# Altium integrated library INDUCTOR-5.0mmX4.5mm.IntLib: 115 symbols (part 2 of 2)
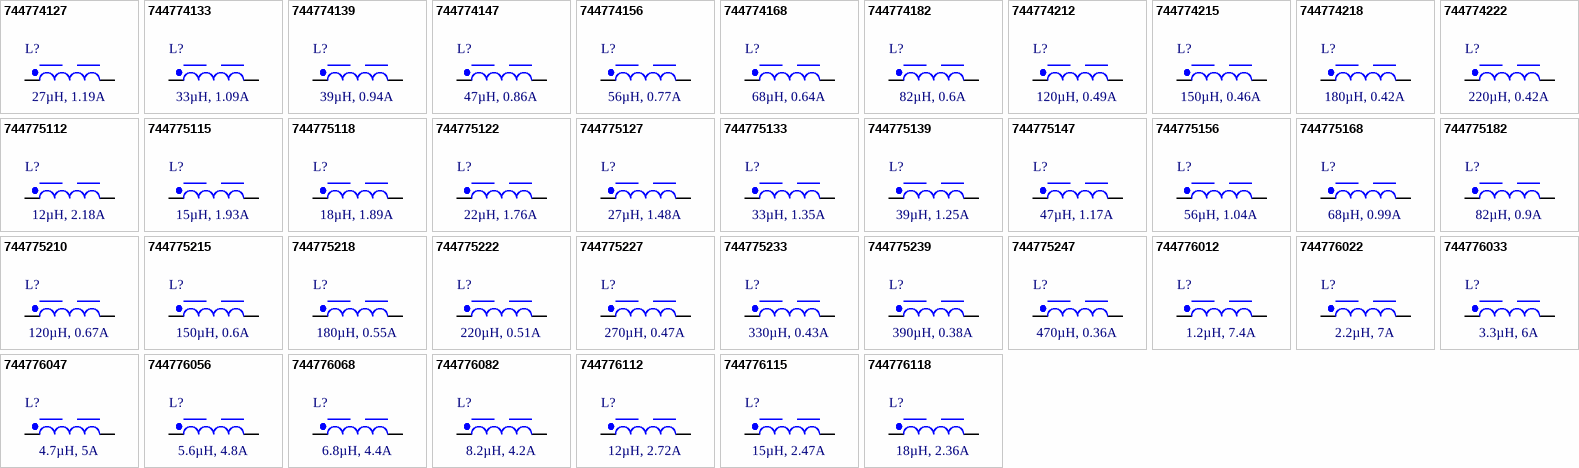
[diagram p3: symbols 744774127 to 744776118]

## 744775147
designator L?, comment 47µH, 1.17A
WE-PD2 SMT Power Inductor, size 7850, 47µH, 1.17A, 0.134Ω; Manufacturer Part Number: 744775147; Manufacturer: Wurth Elektronik; Case/Size Code: 7850; Saturation Current @ 10%: 1.24A; Self Resonant Frequency: 12MHz; Category: Power Inductors; Match Code: WE-PD2; ComponentLink1Description: Website Link; ComponentLink1URL: https://www.we-online.com/redexpert/article/744775147?ad; ComponentLink2Description: Datasheet Link; ComponentLink2URL: https://www.we-online.com/redexpert/spec/744775147?ad; Mount: Surface Mount; Min Operating Temperature: -40°C; Max Operating Temperature: 125°C; Packaging: Tape and Reel; Length: 7.8mm; Width: 7mm; Height: 4.95mm; DC Resistance Max: 0.134Ω; Inductance: 47µH; Rated Current: 1.17A
footprint WE-PD2_7850
simulation model 7850_744775147_47u
pins: 1, 2

## 744775156
designator L?, comment 56µH, 1.04A
WE-PD2 SMT Power Inductor, size 7850, 56µH, 1.04A, 0.189Ω; Manufacturer Part Number: 744775156; Manufacturer: Wurth Elektronik; Case/Size Code: 7850; Saturation Current @ 10%: 1.14A; Self Resonant Frequency: 10.5MHz; Category: Power Inductors; Match Code: WE-PD2; ComponentLink1Description: Website Link; ComponentLink1URL: https://www.we-online.com/redexpert/article/744775156?ad; ComponentLink2Description: Datasheet Link; ComponentLink2URL: https://www.we-online.com/redexpert/spec/744775156?ad; Mount: Surface Mount; Min Operating Temperature: -40°C; Max Operating Temperature: 125°C; Packaging: Tape and Reel; Length: 7.8mm; Width: 7mm; Height: 4.95mm; DC Resistance Max: 0.189Ω; Inductance: 56µH; Rated Current: 1.04A
footprint WE-PD2_7850
simulation model 7850_744775156_56u
pins: 1, 2

## 744775168
designator L?, comment 68µH, 0.99A
WE-PD2 SMT Power Inductor, size 7850, 68µH, 0.99A, 0.218Ω; Manufacturer Part Number: 744775168; Manufacturer: Wurth Elektronik; Case/Size Code: 7850; Saturation Current @ 10%: 1.05A; Self Resonant Frequency: 9.7MHz; Category: Power Inductors; Match Code: WE-PD2; ComponentLink1Description: Website Link; ComponentLink1URL: https://www.we-online.com/redexpert/article/744775168?ad; ComponentLink2Description: Datasheet Link; ComponentLink2URL: https://www.we-online.com/redexpert/spec/744775168?ad; Mount: Surface Mount; Min Operating Temperature: -40°C; Max Operating Temperature: 125°C; Packaging: Tape and Reel; Length: 7.8mm; Width: 7mm; Height: 4.95mm; DC Resistance Max: 0.218Ω; Inductance: 68µH; Rated Current: 0.99A
footprint WE-PD2_7850
simulation model 7850_744775168_68u
pins: 1, 2

## 744775182
designator L?, comment 82µH, 0.9A
WE-PD2 SMT Power Inductor, size 7850, 82µH, 0.9A, 0.248Ω; Manufacturer Part Number: 744775182; Manufacturer: Wurth Elektronik; Case/Size Code: 7850; Saturation Current @ 10%: 0.95A; Self Resonant Frequency: 8.6MHz; Category: Power Inductors; Match Code: WE-PD2; ComponentLink1Description: Website Link; ComponentLink1URL: https://www.we-online.com/redexpert/article/744775182?ad; ComponentLink2Description: Datasheet Link; ComponentLink2URL: https://www.we-online.com/redexpert/spec/744775182?ad; Mount: Surface Mount; Min Operating Temperature: -40°C; Max Operating Temperature: 125°C; Packaging: Tape and Reel; Length: 7.8mm; Width: 7mm; Height: 4.95mm; DC Resistance Max: 0.248Ω; Inductance: 82µH; Rated Current: 0.9A
footprint WE-PD2_7850
simulation model 7850_744775182_82u
pins: 1, 2

## 744775210
designator L?, comment 120µH, 0.67A
WE-PD2 SMT Power Inductor, size 7850, 120µH, 0.67A, 0.308Ω; Manufacturer Part Number: 744775210; Manufacturer: Wurth Elektronik; Case/Size Code: 7850; Saturation Current @ 10%: 0.81A; Self Resonant Frequency: 7MHz; Category: Power Inductors; Match Code: WE-PD2; ComponentLink1Description: Website Link; ComponentLink1URL: https://www.we-online.com/redexpert/article/744775210?ad; ComponentLink2Description: Datasheet Link; ComponentLink2URL: https://www.we-online.com/redexpert/spec/744775210?ad; Mount: Surface Mount; Min Operating Temperature: -40°C; Max Operating Temperature: 125°C; Packaging: Tape and Reel; Length: 7.8mm; Width: 7mm; Height: 4.95mm; DC Resistance Max: 0.308Ω; Inductance: 120µH; Rated Current: 0.67A
footprint WE-PD2_7850
simulation model 7850_744775210_120u
pins: 1, 2

## 744775215
designator L?, comment 150µH, 0.6A
WE-PD2 SMT Power Inductor, size 7850, 150µH, 0.6A, 0.467Ω; Manufacturer Part Number: 744775215; Manufacturer: Wurth Elektronik; Case/Size Code: 7850; Saturation Current @ 10%: 0.71A; Self Resonant Frequency: 6.2MHz; Category: Power Inductors; Match Code: WE-PD2; ComponentLink1Description: Website Link; ComponentLink1URL: https://www.we-online.com/redexpert/article/744775215?ad; ComponentLink2Description: Datasheet Link; ComponentLink2URL: https://www.we-online.com/redexpert/spec/744775215?ad; Mount: Surface Mount; Min Operating Temperature: -40°C; Max Operating Temperature: 125°C; Packaging: Tape and Reel; Length: 7.8mm; Width: 7mm; Height: 4.95mm; DC Resistance Max: 0.467Ω; Inductance: 150µH; Rated Current: 0.6A
footprint WE-PD2_7850
simulation model 7850_744775215_150u
pins: 1, 2

## 744775218
designator L?, comment 180µH, 0.55A
WE-PD2 SMT Power Inductor, size 7850, 180µH, 0.55A, 0.574Ω; Manufacturer Part Number: 744775218; Manufacturer: Wurth Elektronik; Case/Size Code: 7850; Saturation Current @ 10%: 0.57A; Self Resonant Frequency: 5.8MHz; Category: Power Inductors; Match Code: WE-PD2; ComponentLink1Description: Website Link; ComponentLink1URL: https://www.we-online.com/redexpert/article/744775218?ad; ComponentLink2Description: Datasheet Link; ComponentLink2URL: https://www.we-online.com/redexpert/spec/744775218?ad; Mount: Surface Mount; Min Operating Temperature: -40°C; Max Operating Temperature: 125°C; Packaging: Tape and Reel; Length: 7.8mm; Width: 7mm; Height: 4.95mm; DC Resistance Max: 0.574Ω; Inductance: 180µH; Rated Current: 0.55A
footprint WE-PD2_7850
simulation model 7850_744775218_180u
pins: 1, 2

## 744775222
designator L?, comment 220µH, 0.51A
WE-PD2 SMT Power Inductor, size 7850, 220µH, 0.51A, 0.614Ω; Manufacturer Part Number: 744775222; Manufacturer: Wurth Elektronik; Case/Size Code: 7850; Saturation Current @ 10%: 0.56A; Self Resonant Frequency: 5.4MHz; Category: Power Inductors; Match Code: WE-PD2; ComponentLink1Description: Website Link; ComponentLink1URL: https://www.we-online.com/redexpert/article/744775222?ad; ComponentLink2Description: Datasheet Link; ComponentLink2URL: https://www.we-online.com/redexpert/spec/744775222?ad; Mount: Surface Mount; Min Operating Temperature: -40°C; Max Operating Temperature: 125°C; Packaging: Tape and Reel; Length: 7.8mm; Width: 7mm; Height: 4.95mm; DC Resistance Max: 0.614Ω; Inductance: 220µH; Rated Current: 0.51A
footprint WE-PD2_7850
simulation model 7850_744775222_220u
pins: 1, 2

## 744775227
designator L?, comment 270µH, 0.47A
WE-PD2 SMT Power Inductor, size 7850, 270µH, 0.47A, 0.699Ω; Manufacturer Part Number: 744775227; Manufacturer: Wurth Elektronik; Case/Size Code: 7850; Saturation Current @ 10%: 0.51A; Self Resonant Frequency: 4.7MHz; Category: Power Inductors; Match Code: WE-PD2; ComponentLink1Description: Website Link; ComponentLink1URL: https://www.we-online.com/redexpert/article/744775227?ad; ComponentLink2Description: Datasheet Link; ComponentLink2URL: https://www.we-online.com/redexpert/spec/744775227?ad; Mount: Surface Mount; Min Operating Temperature: -40°C; Max Operating Temperature: 125°C; Packaging: Tape and Reel; Length: 7.8mm; Width: 7mm; Height: 4.95mm; DC Resistance Max: 0.699Ω; Inductance: 270µH; Rated Current: 0.47A
footprint WE-PD2_7850
simulation model 7850_744775227_270u
pins: 1, 2

## 744775233
designator L?, comment 330µH, 0.43A
WE-PD2 SMT Power Inductor, size 7850, 330µH, 0.43A, 0.81Ω; Manufacturer Part Number: 744775233; Manufacturer: Wurth Elektronik; Case/Size Code: 7850; Saturation Current @ 10%: 0.48A; Self Resonant Frequency: 4.2MHz; Category: Power Inductors; Match Code: WE-PD2; ComponentLink1Description: Website Link; ComponentLink1URL: https://www.we-online.com/redexpert/article/744775233?ad; ComponentLink2Description: Datasheet Link; ComponentLink2URL: https://www.we-online.com/redexpert/spec/744775233?ad; Mount: Surface Mount; Min Operating Temperature: -40°C; Max Operating Temperature: 125°C; Packaging: Tape and Reel; Length: 7.8mm; Width: 7mm; Height: 4.95mm; DC Resistance Max: 0.81Ω; Inductance: 330µH; Rated Current: 0.43A
footprint WE-PD2_7850
simulation model 7850_744775233_330u
pins: 1, 2

## 744775239
designator L?, comment 390µH, 0.38A
WE-PD2 SMT Power Inductor, size 7850, 390µH, 0.38A, 1.151Ω; Manufacturer Part Number: 744775239; Manufacturer: Wurth Elektronik; Case/Size Code: 7850; Saturation Current @ 10%: 0.43A; Self Resonant Frequency: 3.9MHz; Category: Power Inductors; Match Code: WE-PD2; ComponentLink1Description: Website Link; ComponentLink1URL: https://www.we-online.com/redexpert/article/744775239?ad; ComponentLink2Description: Datasheet Link; ComponentLink2URL: https://www.we-online.com/redexpert/spec/744775239?ad; Mount: Surface Mount; Min Operating Temperature: -40°C; Max Operating Temperature: 125°C; Packaging: Tape and Reel; Length: 7.8mm; Width: 7mm; Height: 4.95mm; DC Resistance Max: 1.151Ω; Inductance: 390µH; Rated Current: 0.38A
footprint WE-PD2_7850
simulation model 7850_744775239_390u
pins: 1, 2

## 744775247
designator L?, comment 470µH, 0.36A
WE-PD2 SMT Power Inductor, size 7850, 470µH, 0.36A, 1.37Ω; Manufacturer Part Number: 744775247; Manufacturer: Wurth Elektronik; Case/Size Code: 7850; Saturation Current @ 10%: 0.38A; Self Resonant Frequency: 3.4MHz; Category: Power Inductors; Match Code: WE-PD2; ComponentLink1Description: Website Link; ComponentLink1URL: https://www.we-online.com/redexpert/article/744775247?ad; ComponentLink2Description: Datasheet Link; ComponentLink2URL: https://www.we-online.com/redexpert/spec/744775247?ad; Mount: Surface Mount; Min Operating Temperature: -40°C; Max Operating Temperature: 125°C; Packaging: Tape and Reel; Length: 7.8mm; Width: 7mm; Height: 4.95mm; DC Resistance Max: 1.37Ω; Inductance: 470µH; Rated Current: 0.36A
footprint WE-PD2_7850
simulation model 7850_744775247_470u
pins: 1, 2

## 744776012
designator L?, comment 1.2µH, 7.4A
WE-PD2 SMT Power Inductor, size 1054, 1.2µH, 7.4A, 0.004Ω; Manufacturer Part Number: 744776012; Manufacturer: Wurth Elektronik; Case/Size Code: 1054; Saturation Current @ 10%: 11A; Self Resonant Frequency: 110MHz; Category: Power Inductors; Match Code: WE-PD2; ComponentLink1Description: Website Link; ComponentLink1URL: https://www.we-online.com/redexpert/article/744776012?ad; ComponentLink2Description: Datasheet Link; ComponentLink2URL: https://www.we-online.com/redexpert/spec/744776012?ad; Mount: Surface Mount; Min Operating Temperature: -40°C; Max Operating Temperature: 125°C; Packaging: Tape and Reel; Length: 10mm; Width: 9mm; Height: 5.4mm; DC Resistance Max: 0.004Ω; Inductance: 1.2µH; Rated Current: 7.4A
footprint WE-PD2_1054
simulation model 1054_744776012_1.2u
pins: 1, 2

## 744776022
designator L?, comment 2.2µH, 7A
WE-PD2 SMT Power Inductor, size 1054, 2.2µH, 7A, 0.007Ω; Manufacturer Part Number: 744776022; Manufacturer: Wurth Elektronik; Case/Size Code: 1054; Saturation Current @ 10%: 8A; Self Resonant Frequency: 75MHz; Category: Power Inductors; Match Code: WE-PD2; ComponentLink1Description: Website Link; ComponentLink1URL: https://www.we-online.com/redexpert/article/744776022?ad; ComponentLink2Description: Datasheet Link; ComponentLink2URL: https://www.we-online.com/redexpert/spec/744776022?ad; Mount: Surface Mount; Min Operating Temperature: -40°C; Max Operating Temperature: 125°C; Packaging: Tape and Reel; Length: 10mm; Width: 9mm; Height: 5.4mm; DC Resistance Max: 0.007Ω; Inductance: 2.2µH; Rated Current: 7A
footprint WE-PD2_1054
simulation model 1054_744776022_2.2u
pins: 1, 2

## 744776033
designator L?, comment 3.3µH, 6A
WE-PD2 SMT Power Inductor, size 1054, 3.3µH, 6A, 0.009Ω; Manufacturer Part Number: 744776033; Manufacturer: Wurth Elektronik; Case/Size Code: 1054; Saturation Current @ 10%: 7A; Self Resonant Frequency: 45MHz; Category: Power Inductors; Match Code: WE-PD2; ComponentLink1Description: Website Link; ComponentLink1URL: https://www.we-online.com/redexpert/article/744776033?ad; ComponentLink2Description: Datasheet Link; ComponentLink2URL: https://www.we-online.com/redexpert/spec/744776033?ad; Mount: Surface Mount; Min Operating Temperature: -40°C; Max Operating Temperature: 125°C; Packaging: Tape and Reel; Length: 10mm; Width: 9mm; Height: 5.4mm; DC Resistance Max: 0.009Ω; Inductance: 3.3µH; Rated Current: 6A
footprint WE-PD2_1054
simulation model 1054_744776033_3.3u
pins: 1, 2

## 744776047
designator L?, comment 4.7µH, 5A
WE-PD2 SMT Power Inductor, size 1054, 4.7µH, 5A, 0.012Ω; Manufacturer Part Number: 744776047; Manufacturer: Wurth Elektronik; Case/Size Code: 1054; Saturation Current @ 10%: 6A; Self Resonant Frequency: 41MHz; Category: Power Inductors; Match Code: WE-PD2; ComponentLink1Description: Website Link; ComponentLink1URL: https://www.we-online.com/redexpert/article/744776047?ad; ComponentLink2Description: Datasheet Link; ComponentLink2URL: https://www.we-online.com/redexpert/spec/744776047?ad; Mount: Surface Mount; Min Operating Temperature: -40°C; Max Operating Temperature: 125°C; Packaging: Tape and Reel; Length: 10mm; Width: 9mm; Height: 5.4mm; DC Resistance Max: 0.012Ω; Inductance: 4.7µH; Rated Current: 5A
footprint WE-PD2_1054
simulation model 1054_744776047_4.7u
pins: 1, 2

## 744776056
designator L?, comment 5.6µH, 4.8A
WE-PD2 SMT Power Inductor, size 1054, 5.6µH, 4.8A, 0.015Ω; Manufacturer Part Number: 744776056; Manufacturer: Wurth Elektronik; Case/Size Code: 1054; Saturation Current @ 10%: 5.5A; Self Resonant Frequency: 38MHz; Category: Power Inductors; Match Code: WE-PD2; ComponentLink1Description: Website Link; ComponentLink1URL: https://www.we-online.com/redexpert/article/744776056?ad; ComponentLink2Description: Datasheet Link; ComponentLink2URL: https://www.we-online.com/redexpert/spec/744776056?ad; Mount: Surface Mount; Min Operating Temperature: -40°C; Max Operating Temperature: 125°C; Packaging: Tape and Reel; Length: 10mm; Width: 9mm; Height: 5.4mm; DC Resistance Max: 0.015Ω; Inductance: 5.6µH; Rated Current: 4.8A
footprint WE-PD2_1054
simulation model 1054_744776056_5.6u
pins: 1, 2

## 744776068
designator L?, comment 6.8µH, 4.4A
WE-PD2 SMT Power Inductor, size 1054, 6.8µH, 4.4A, 0.016Ω; Manufacturer Part Number: 744776068; Manufacturer: Wurth Elektronik; Case/Size Code: 1054; Saturation Current @ 10%: 5A; Self Resonant Frequency: 34MHz; Category: Power Inductors; Match Code: WE-PD2; ComponentLink1Description: Website Link; ComponentLink1URL: https://www.we-online.com/redexpert/article/744776068?ad; ComponentLink2Description: Datasheet Link; ComponentLink2URL: https://www.we-online.com/redexpert/spec/744776068?ad; Mount: Surface Mount; Min Operating Temperature: -40°C; Max Operating Temperature: 125°C; Packaging: Tape and Reel; Length: 10mm; Width: 9mm; Height: 5.4mm; DC Resistance Max: 0.016Ω; Inductance: 6.8µH; Rated Current: 4.4A
footprint WE-PD2_1054
simulation model 1054_744776068_6.8u
pins: 1, 2

## 744776082
designator L?, comment 8.2µH, 4.2A
WE-PD2 SMT Power Inductor, size 1054, 8.2µH, 4.2A, 0.02Ω; Manufacturer Part Number: 744776082; Manufacturer: Wurth Elektronik; Case/Size Code: 1054; Saturation Current @ 10%: 4.25A; Self Resonant Frequency: 25MHz; Category: Power Inductors; Match Code: WE-PD2; ComponentLink1Description: Website Link; ComponentLink1URL: https://www.we-online.com/redexpert/article/744776082?ad; ComponentLink2Description: Datasheet Link; ComponentLink2URL: https://www.we-online.com/redexpert/spec/744776082?ad; Mount: Surface Mount; Min Operating Temperature: -40°C; Max Operating Temperature: 125°C; Packaging: Tape and Reel; Length: 10mm; Width: 9mm; Height: 5.4mm; DC Resistance Max: 0.02Ω; Inductance: 8.2µH; Rated Current: 4.2A
footprint WE-PD2_1054
simulation model 1054_744776082_8.2u
pins: 1, 2

## 744776112
designator L?, comment 12µH, 2.72A
WE-PD2 SMT Power Inductor, size 1054, 12µH, 2.72A, 0.033Ω; Manufacturer Part Number: 744776112; Manufacturer: Wurth Elektronik; Case/Size Code: 1054; Saturation Current @ 10%: 3.15A; Self Resonant Frequency: 23MHz; Category: Power Inductors; Match Code: WE-PD2; ComponentLink1Description: Website Link; ComponentLink1URL: https://www.we-online.com/redexpert/article/744776112?ad; ComponentLink2Description: Datasheet Link; ComponentLink2URL: https://www.we-online.com/redexpert/spec/744776112?ad; Mount: Surface Mount; Min Operating Temperature: -40°C; Max Operating Temperature: 125°C; Packaging: Tape and Reel; Length: 10mm; Width: 9mm; Height: 5.4mm; DC Resistance Max: 0.033Ω; Inductance: 12µH; Rated Current: 2.72A
footprint WE-PD2_1054
simulation model 1054_744776112_12u
pins: 1, 2

## 744776115
designator L?, comment 15µH, 2.47A
WE-PD2 SMT Power Inductor, size 1054, 15µH, 2.47A, 0.034Ω; Manufacturer Part Number: 744776115; Manufacturer: Wurth Elektronik; Case/Size Code: 1054; Saturation Current @ 10%: 2.88A; Self Resonant Frequency: 20MHz; Category: Power Inductors; Match Code: WE-PD2; ComponentLink1Description: Website Link; ComponentLink1URL: https://www.we-online.com/redexpert/article/744776115?ad; ComponentLink2Description: Datasheet Link; ComponentLink2URL: https://www.we-online.com/redexpert/spec/744776115?ad; Mount: Surface Mount; Min Operating Temperature: -40°C; Max Operating Temperature: 125°C; Packaging: Tape and Reel; Length: 10mm; Width: 9mm; Height: 5.4mm; DC Resistance Max: 0.034Ω; Inductance: 15µH; Rated Current: 2.47A
footprint WE-PD2_1054
simulation model 1054_744776115_15u
pins: 1, 2

## 744776118
designator L?, comment 18µH, 2.36A
WE-PD2 SMT Power Inductor, size 1054, 18µH, 2.36A, 0.043Ω; Manufacturer Part Number: 744776118; Manufacturer: Wurth Elektronik; Case/Size Code: 1054; Saturation Current @ 10%: 2.43A; Self Resonant Frequency: 19MHz; Category: Power Inductors; Match Code: WE-PD2; ComponentLink1Description: Website Link; ComponentLink1URL: https://www.we-online.com/redexpert/article/744776118?ad; ComponentLink2Description: Datasheet Link; ComponentLink2URL: https://www.we-online.com/redexpert/spec/744776118?ad; Mount: Surface Mount; Min Operating Temperature: -40°C; Max Operating Temperature: 125°C; Packaging: Tape and Reel; Length: 10mm; Width: 9mm; Height: 5.4mm; DC Resistance Max: 0.043Ω; Inductance: 18µH; Rated Current: 2.36A
footprint WE-PD2_1054
simulation model 1054_744776118_18u
pins: 1, 2

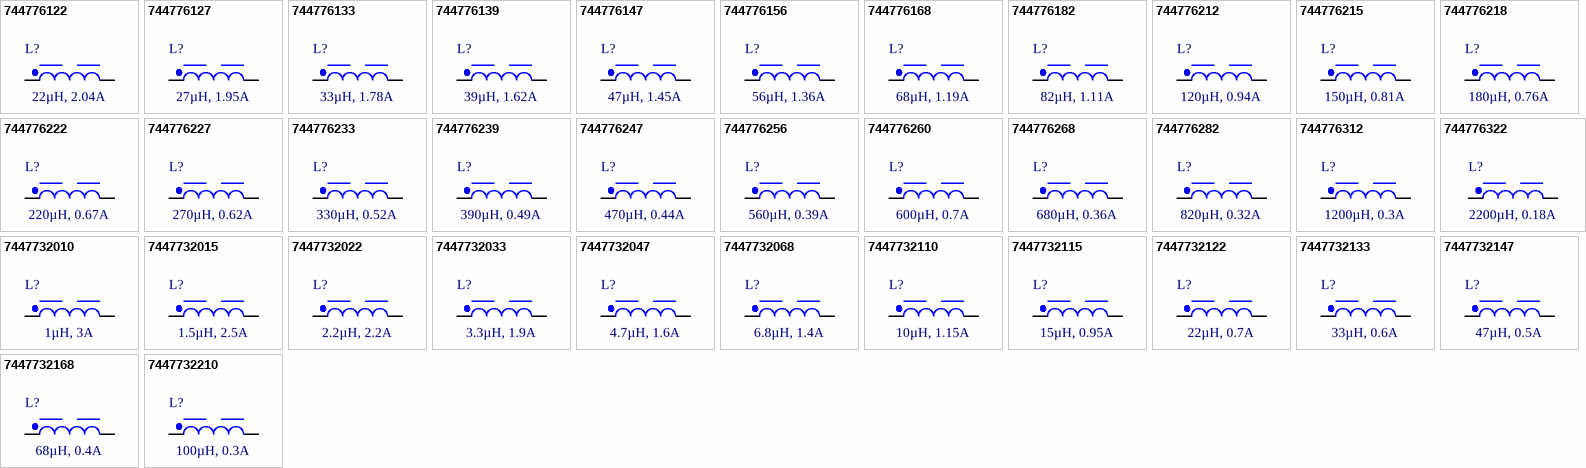
[diagram p2: symbols 744776122 to 7447732210]

## 744776122
designator L?, comment 22µH, 2.04A
WE-PD2 SMT Power Inductor, size 1054, 22µH, 2.04A, 0.051Ω; Manufacturer Part Number: 744776122; Manufacturer: Wurth Elektronik; Case/Size Code: 1054; Saturation Current @ 10%: 2.07A; Self Resonant Frequency: 16MHz; Category: Power Inductors; Match Code: WE-PD2; ComponentLink1Description: Website Link; ComponentLink1URL: https://www.we-online.com/redexpert/article/744776122?ad; ComponentLink2Description: Datasheet Link; ComponentLink2URL: https://www.we-online.com/redexpert/spec/744776122?ad; Mount: Surface Mount; Min Operating Temperature: -40°C; Max Operating Temperature: 125°C; Packaging: Tape and Reel; Length: 10mm; Width: 9mm; Height: 5.4mm; DC Resistance Max: 0.051Ω; Inductance: 22µH; Rated Current: 2.04A
footprint WE-PD2_1054
simulation model 1054_744776122_22u
pins: 1, 2

## 744776127
designator L?, comment 27µH, 1.95A
WE-PD2 SMT Power Inductor, size 1054, 27µH, 1.95A, 0.063Ω; Manufacturer Part Number: 744776127; Manufacturer: Wurth Elektronik; Case/Size Code: 1054; Saturation Current @ 10%: 1.98A; Self Resonant Frequency: 15MHz; Category: Power Inductors; Match Code: WE-PD2; ComponentLink1Description: Website Link; ComponentLink1URL: https://www.we-online.com/redexpert/article/744776127?ad; ComponentLink2Description: Datasheet Link; ComponentLink2URL: https://www.we-online.com/redexpert/spec/744776127?ad; Mount: Surface Mount; Min Operating Temperature: -40°C; Max Operating Temperature: 125°C; Packaging: Tape and Reel; Length: 10mm; Width: 9mm; Height: 5.4mm; DC Resistance Max: 0.063Ω; Inductance: 27µH; Rated Current: 1.95A
footprint WE-PD2_1054
simulation model 1054_744776127_27u
pins: 1, 2

## 744776133
designator L?, comment 33µH, 1.78A
WE-PD2 SMT Power Inductor, size 1054, 33µH, 1.78A, 0.083Ω; Manufacturer Part Number: 744776133; Manufacturer: Wurth Elektronik; Case/Size Code: 1054; Saturation Current @ 10%: 1.89A; Self Resonant Frequency: 13MHz; Category: Power Inductors; Match Code: WE-PD2; ComponentLink1Description: Website Link; ComponentLink1URL: https://www.we-online.com/redexpert/article/744776133?ad; ComponentLink2Description: Datasheet Link; ComponentLink2URL: https://www.we-online.com/redexpert/spec/744776133?ad; Mount: Surface Mount; Min Operating Temperature: -40°C; Max Operating Temperature: 125°C; Packaging: Tape and Reel; Length: 10mm; Width: 9mm; Height: 5.4mm; DC Resistance Max: 0.083Ω; Inductance: 33µH; Rated Current: 1.78A
footprint WE-PD2_1054
simulation model 1054_744776133_33u
pins: 1, 2

## 744776139
designator L?, comment 39µH, 1.62A
WE-PD2 SMT Power Inductor, size 1054, 39µH, 1.62A, 0.098Ω; Manufacturer Part Number: 744776139; Manufacturer: Wurth Elektronik; Case/Size Code: 1054; Saturation Current @ 10%: 1.8A; Self Resonant Frequency: 12MHz; Category: Power Inductors; Match Code: WE-PD2; ComponentLink1Description: Website Link; ComponentLink1URL: https://www.we-online.com/redexpert/article/744776139?ad; ComponentLink2Description: Datasheet Link; ComponentLink2URL: https://www.we-online.com/redexpert/spec/744776139?ad; Mount: Surface Mount; Min Operating Temperature: -40°C; Max Operating Temperature: 125°C; Packaging: Tape and Reel; Length: 10mm; Width: 9mm; Height: 5.4mm; DC Resistance Max: 0.098Ω; Inductance: 39µH; Rated Current: 1.62A
footprint WE-PD2_1054
simulation model 1054_744776139_39u
pins: 1, 2

## 744776147
designator L?, comment 47µH, 1.45A
WE-PD2 SMT Power Inductor, size 1054, 47µH, 1.45A, 0.095Ω; Manufacturer Part Number: 744776147; Manufacturer: Wurth Elektronik; Case/Size Code: 1054; Saturation Current @ 10%: 1.62A; Self Resonant Frequency: 11MHz; Category: Power Inductors; Match Code: WE-PD2; ComponentLink1Description: Website Link; ComponentLink1URL: https://www.we-online.com/redexpert/article/744776147?ad; ComponentLink2Description: Datasheet Link; ComponentLink2URL: https://www.we-online.com/redexpert/spec/744776147?ad; Mount: Surface Mount; Min Operating Temperature: -40°C; Max Operating Temperature: 125°C; Packaging: Tape and Reel; Length: 10mm; Width: 9mm; Height: 5.4mm; DC Resistance Max: 0.095Ω; Inductance: 47µH; Rated Current: 1.45A
footprint WE-PD2_1054
simulation model 1054_744776147_47u
pins: 1, 2

## 744776156
designator L?, comment 56µH, 1.36A
WE-PD2 SMT Power Inductor, size 1054, 56µH, 1.36A, 0.112Ω; Manufacturer Part Number: 744776156; Manufacturer: Wurth Elektronik; Case/Size Code: 1054; Saturation Current @ 10%: 1.53A; Self Resonant Frequency: 10MHz; Category: Power Inductors; Match Code: WE-PD2; ComponentLink1Description: Website Link; ComponentLink1URL: https://www.we-online.com/redexpert/article/744776156?ad; ComponentLink2Description: Datasheet Link; ComponentLink2URL: https://www.we-online.com/redexpert/spec/744776156?ad; Mount: Surface Mount; Min Operating Temperature: -40°C; Max Operating Temperature: 125°C; Packaging: Tape and Reel; Length: 10mm; Width: 9mm; Height: 5.4mm; DC Resistance Max: 0.112Ω; Inductance: 56µH; Rated Current: 1.36A
footprint WE-PD2_1054
simulation model 1054_744776156_56u
pins: 1, 2

## 744776168
designator L?, comment 68µH, 1.19A
WE-PD2 SMT Power Inductor, size 1054, 68µH, 1.19A, 0.138Ω; Manufacturer Part Number: 744776168; Manufacturer: Wurth Elektronik; Case/Size Code: 1054; Saturation Current @ 10%: 1.49A; Self Resonant Frequency: 9MHz; Category: Power Inductors; Match Code: WE-PD2; ComponentLink1Description: Website Link; ComponentLink1URL: https://www.we-online.com/redexpert/article/744776168?ad; ComponentLink2Description: Datasheet Link; ComponentLink2URL: https://www.we-online.com/redexpert/spec/744776168?ad; Mount: Surface Mount; Min Operating Temperature: -40°C; Max Operating Temperature: 125°C; Packaging: Tape and Reel; Length: 10mm; Width: 9mm; Height: 5.4mm; DC Resistance Max: 0.138Ω; Inductance: 68µH; Rated Current: 1.19A
footprint WE-PD2_1054
simulation model 1054_744776168_68u
pins: 1, 2

## 744776182
designator L?, comment 82µH, 1.11A
WE-PD2 SMT Power Inductor, size 1054, 82µH, 1.11A, 0.15Ω; Manufacturer Part Number: 744776182; Manufacturer: Wurth Elektronik; Case/Size Code: 1054; Saturation Current @ 10%: 1.17A; Self Resonant Frequency: 8MHz; Category: Power Inductors; Match Code: WE-PD2; ComponentLink1Description: Website Link; ComponentLink1URL: https://www.we-online.com/redexpert/article/744776182?ad; ComponentLink2Description: Datasheet Link; ComponentLink2URL: https://www.we-online.com/redexpert/spec/744776182?ad; Mount: Surface Mount; Min Operating Temperature: -40°C; Max Operating Temperature: 125°C; Packaging: Tape and Reel; Length: 10mm; Width: 9mm; Height: 5.4mm; DC Resistance Max: 0.15Ω; Inductance: 82µH; Rated Current: 1.11A
footprint WE-PD2_1054
simulation model 1054_744776182_82u
pins: 1, 2

## 744776212
designator L?, comment 120µH, 0.94A
WE-PD2 SMT Power Inductor, size 1054, 120µH, 0.94A, 0.243Ω; Manufacturer Part Number: 744776212; Manufacturer: Wurth Elektronik; Case/Size Code: 1054; Saturation Current @ 10%: 0.99A; Self Resonant Frequency: 6.5MHz; Category: Power Inductors; Match Code: WE-PD2; ComponentLink1Description: Website Link; ComponentLink1URL: https://www.we-online.com/redexpert/article/744776212?ad; ComponentLink2Description: Datasheet Link; ComponentLink2URL: https://www.we-online.com/redexpert/spec/744776212?ad; Mount: Surface Mount; Min Operating Temperature: -40°C; Max Operating Temperature: 125°C; Packaging: Tape and Reel; Length: 10mm; Width: 9mm; Height: 5.4mm; DC Resistance Max: 0.243Ω; Inductance: 120µH; Rated Current: 0.94A
footprint WE-PD2_1054
simulation model 1054_744776212_120u
pins: 1, 2

## 744776215
designator L?, comment 150µH, 0.81A
WE-PD2 SMT Power Inductor, size 1054, 150µH, 0.81A, 0.3Ω; Manufacturer Part Number: 744776215; Manufacturer: Wurth Elektronik; Case/Size Code: 1054; Saturation Current @ 10%: 0.9A; Self Resonant Frequency: 6MHz; Category: Power Inductors; Match Code: WE-PD2; ComponentLink1Description: Website Link; ComponentLink1URL: https://www.we-online.com/redexpert/article/744776215?ad; ComponentLink2Description: Datasheet Link; ComponentLink2URL: https://www.we-online.com/redexpert/spec/744776215?ad; Mount: Surface Mount; Min Operating Temperature: -40°C; Max Operating Temperature: 125°C; Packaging: Tape and Reel; Length: 10mm; Width: 9mm; Height: 5.4mm; DC Resistance Max: 0.3Ω; Inductance: 150µH; Rated Current: 0.81A
footprint WE-PD2_1054
simulation model 1054_744776215_150u
pins: 1, 2

## 744776218
designator L?, comment 180µH, 0.76A
WE-PD2 SMT Power Inductor, size 1054, 180µH, 0.76A, 0.32Ω; Manufacturer Part Number: 744776218; Manufacturer: Wurth Elektronik; Case/Size Code: 1054; Saturation Current @ 10%: 0.78A; Self Resonant Frequency: 5.4MHz; Category: Power Inductors; Match Code: WE-PD2; ComponentLink1Description: Website Link; ComponentLink1URL: https://www.we-online.com/redexpert/article/744776218?ad; ComponentLink2Description: Datasheet Link; ComponentLink2URL: https://www.we-online.com/redexpert/spec/744776218?ad; Mount: Surface Mount; Min Operating Temperature: -40°C; Max Operating Temperature: 125°C; Packaging: Tape and Reel; Length: 10mm; Width: 9mm; Height: 5.4mm; DC Resistance Max: 0.32Ω; Inductance: 180µH; Rated Current: 0.76A
footprint WE-PD2_1054
simulation model 1054_744776218_180u
pins: 1, 2

## 744776222
designator L?, comment 220µH, 0.67A
WE-PD2 SMT Power Inductor, size 1054, 220µH, 0.67A, 0.451Ω; Manufacturer Part Number: 744776222; Manufacturer: Wurth Elektronik; Case/Size Code: 1054; Saturation Current @ 10%: 0.77A; Self Resonant Frequency: 5MHz; Category: Power Inductors; Match Code: WE-PD2; ComponentLink1Description: Website Link; ComponentLink1URL: https://www.we-online.com/redexpert/article/744776222?ad; ComponentLink2Description: Datasheet Link; ComponentLink2URL: https://www.we-online.com/redexpert/spec/744776222?ad; Mount: Surface Mount; Min Operating Temperature: -40°C; Max Operating Temperature: 125°C; Packaging: Tape and Reel; Length: 10mm; Width: 9mm; Height: 5.4mm; DC Resistance Max: 0.451Ω; Inductance: 220µH; Rated Current: 0.67A
footprint WE-PD2_1054
simulation model 1054_744776222_220u
pins: 1, 2

## 744776227
designator L?, comment 270µH, 0.62A
WE-PD2 SMT Power Inductor, size 1054, 270µH, 0.62A, 0.5Ω; Manufacturer Part Number: 744776227; Manufacturer: Wurth Elektronik; Case/Size Code: 1054; Saturation Current @ 10%: 0.68A; Self Resonant Frequency: 4.3MHz; Category: Power Inductors; Match Code: WE-PD2; ComponentLink1Description: Website Link; ComponentLink1URL: https://www.we-online.com/redexpert/article/744776227?ad; ComponentLink2Description: Datasheet Link; ComponentLink2URL: https://www.we-online.com/redexpert/spec/744776227?ad; Mount: Surface Mount; Min Operating Temperature: -40°C; Max Operating Temperature: 125°C; Packaging: Tape and Reel; Length: 10mm; Width: 9mm; Height: 5.4mm; DC Resistance Max: 0.5Ω; Inductance: 270µH; Rated Current: 0.62A
footprint WE-PD2_1054
simulation model 1054_744776227_270u
pins: 1, 2

## 744776233
designator L?, comment 330µH, 0.52A
WE-PD2 SMT Power Inductor, size 1054, 330µH, 0.52A, 0.75Ω; Manufacturer Part Number: 744776233; Manufacturer: Wurth Elektronik; Case/Size Code: 1054; Saturation Current @ 10%: 0.59A; Self Resonant Frequency: 4.1MHz; Category: Power Inductors; Match Code: WE-PD2; ComponentLink1Description: Website Link; ComponentLink1URL: https://www.we-online.com/redexpert/article/744776233?ad; ComponentLink2Description: Datasheet Link; ComponentLink2URL: https://www.we-online.com/redexpert/spec/744776233?ad; Mount: Surface Mount; Min Operating Temperature: -40°C; Max Operating Temperature: 125°C; Packaging: Tape and Reel; Length: 10mm; Width: 9mm; Height: 5.4mm; DC Resistance Max: 0.75Ω; Inductance: 330µH; Rated Current: 0.52A
footprint WE-PD2_1054
simulation model 1054_744776233_330u
pins: 1, 2

## 744776239
designator L?, comment 390µH, 0.49A
WE-PD2 SMT Power Inductor, size 1054, 390µH, 0.49A, 0.794Ω; Manufacturer Part Number: 744776239; Manufacturer: Wurth Elektronik; Case/Size Code: 1054; Saturation Current @ 10%: 0.54A; Self Resonant Frequency: 3.9MHz; Category: Power Inductors; Match Code: WE-PD2; ComponentLink1Description: Website Link; ComponentLink1URL: https://www.we-online.com/redexpert/article/744776239?ad; ComponentLink2Description: Datasheet Link; ComponentLink2URL: https://www.we-online.com/redexpert/spec/744776239?ad; Mount: Surface Mount; Min Operating Temperature: -40°C; Max Operating Temperature: 125°C; Packaging: Tape and Reel; Length: 10mm; Width: 9mm; Height: 5.4mm; DC Resistance Max: 0.794Ω; Inductance: 390µH; Rated Current: 0.49A
footprint WE-PD2_1054
simulation model 1054_744776239_390u
pins: 1, 2

## 744776247
designator L?, comment 470µH, 0.44A
WE-PD2 SMT Power Inductor, size 1054, 470µH, 0.44A, 0.969Ω; Manufacturer Part Number: 744776247; Manufacturer: Wurth Elektronik; Case/Size Code: 1054; Saturation Current @ 10%: 0.5A; Self Resonant Frequency: 3.4MHz; Category: Power Inductors; Match Code: WE-PD2; ComponentLink1Description: Website Link; ComponentLink1URL: https://www.we-online.com/redexpert/article/744776247?ad; ComponentLink2Description: Datasheet Link; ComponentLink2URL: https://www.we-online.com/redexpert/spec/744776247?ad; Mount: Surface Mount; Min Operating Temperature: -40°C; Max Operating Temperature: 125°C; Packaging: Tape and Reel; Length: 10mm; Width: 9mm; Height: 5.4mm; DC Resistance Max: 0.969Ω; Inductance: 470µH; Rated Current: 0.44A
footprint WE-PD2_1054
simulation model 1054_744776247_470u
pins: 1, 2

## 744776256
designator L?, comment 560µH, 0.39A
WE-PD2 SMT Power Inductor, size 1054, 560µH, 0.39A, 1.047Ω; Manufacturer Part Number: 744776256; Manufacturer: Wurth Elektronik; Case/Size Code: 1054; Saturation Current @ 10%: 0.47A; Self Resonant Frequency: 3MHz; Category: Power Inductors; Match Code: WE-PD2; ComponentLink1Description: Website Link; ComponentLink1URL: https://www.we-online.com/redexpert/article/744776256?ad; ComponentLink2Description: Datasheet Link; ComponentLink2URL: https://www.we-online.com/redexpert/spec/744776256?ad; Mount: Surface Mount; Min Operating Temperature: -40°C; Max Operating Temperature: 125°C; Packaging: Tape and Reel; Length: 10mm; Width: 9mm; Height: 5.4mm; DC Resistance Max: 1.047Ω; Inductance: 560µH; Rated Current: 0.39A
footprint WE-PD2_1054
simulation model 1054_744776256_560u
pins: 1, 2

## 744776260
designator L?, comment 600µH, 0.7A
WE-PD2 SMT Power Inductor, size 1054, 600µH, 0.7A, 1.17Ω; Manufacturer Part Number: 744776260; Manufacturer: Wurth Elektronik; Case/Size Code: 1054; Saturation Current @ 10%: 0.6A; Self Resonant Frequency: 2.9MHz; Category: Power Inductors; Match Code: WE-PD2; ComponentLink1Description: Website Link; ComponentLink1URL: https://www.we-online.com/redexpert/article/744776260?ad; ComponentLink2Description: Datasheet Link; ComponentLink2URL: https://www.we-online.com/redexpert/spec/744776260?ad; Mount: Surface Mount; Min Operating Temperature: -40°C; Max Operating Temperature: 125°C; Packaging: Tape and Reel; Length: 10mm; Width: 9mm; Height: 5.4mm; DC Resistance Max: 1.17Ω; Inductance: 600µH; Rated Current: 0.7A
footprint WE-PD2_1054
simulation model 1054_744776260_600u
pins: 1, 2

## 744776268
designator L?, comment 680µH, 0.36A
WE-PD2 SMT Power Inductor, size 1054, 680µH, 0.36A, 1.245Ω; Manufacturer Part Number: 744776268; Manufacturer: Wurth Elektronik; Case/Size Code: 1054; Saturation Current @ 10%: 0.43A; Self Resonant Frequency: 2.7MHz; Category: Power Inductors; Match Code: WE-PD2; ComponentLink1Description: Website Link; ComponentLink1URL: https://www.we-online.com/redexpert/article/744776268?ad; ComponentLink2Description: Datasheet Link; ComponentLink2URL: https://www.we-online.com/redexpert/spec/744776268?ad; Mount: Surface Mount; Min Operating Temperature: -40°C; Max Operating Temperature: 125°C; Packaging: Tape and Reel; Length: 10mm; Width: 9mm; Height: 5.4mm; DC Resistance Max: 1.245Ω; Inductance: 680µH; Rated Current: 0.36A
footprint WE-PD2_1054
simulation model 1054_744776268_680u
pins: 1, 2

## 744776282
designator L?, comment 820µH, 0.32A
WE-PD2 SMT Power Inductor, size 1054, 820µH, 0.32A, 1.42Ω; Manufacturer Part Number: 744776282; Manufacturer: Wurth Elektronik; Case/Size Code: 1054; Saturation Current @ 10%: 0.41A; Self Resonant Frequency: 2.5MHz; Category: Power Inductors; Match Code: WE-PD2; ComponentLink1Description: Website Link; ComponentLink1URL: https://www.we-online.com/redexpert/article/744776282?ad; ComponentLink2Description: Datasheet Link; ComponentLink2URL: https://www.we-online.com/redexpert/spec/744776282?ad; Mount: Surface Mount; Min Operating Temperature: -40°C; Max Operating Temperature: 125°C; Packaging: Tape and Reel; Length: 10mm; Width: 9mm; Height: 5.4mm; DC Resistance Max: 1.42Ω; Inductance: 820µH; Rated Current: 0.32A
footprint WE-PD2_1054
simulation model 1054_744776282_820u
pins: 1, 2

## 744776312
designator L?, comment 1200µH, 0.3A
WE-PD2 SMT Power Inductor, size 1054, 1200µH, 0.3A, 2.48Ω; Manufacturer Part Number: 744776312; Manufacturer: Wurth Elektronik; Case/Size Code: 1054; Saturation Current @ 10%: 0.38A; Self Resonant Frequency: 2.1MHz; Category: Power Inductors; Match Code: WE-PD2; ComponentLink1Description: Website Link; ComponentLink1URL: https://www.we-online.com/redexpert/article/744776312?ad; ComponentLink2Description: Datasheet Link; ComponentLink2URL: https://www.we-online.com/redexpert/spec/744776312?ad; Mount: Surface Mount; Min Operating Temperature: -40°C; Max Operating Temperature: 125°C; Packaging: Tape and Reel; Length: 10mm; Width: 9mm; Height: 5.4mm; DC Resistance Max: 2.48Ω; Inductance: 1200µH; Rated Current: 0.3A
footprint WE-PD2_1054
simulation model 1054_744776312_1.2m
pins: 1, 2

## 744776322
designator L?, comment 2200µH, 0.18A
WE-PD2 SMT Power Inductor, size 1054, 2200µH, 0.18A, 4.4Ω; Manufacturer Part Number: 744776322; Manufacturer: Wurth Elektronik; Case/Size Code: 1054; Saturation Current @ 10%: 0.26A; Self Resonant Frequency: 1.4MHz; Category: Power Inductors; Match Code: WE-PD2; ComponentLink1Description: Website Link; ComponentLink1URL: https://www.we-online.com/redexpert/article/744776322?ad; ComponentLink2Description: Datasheet Link; ComponentLink2URL: https://www.we-online.com/redexpert/spec/744776322?ad; Mount: Surface Mount; Min Operating Temperature: -40°C; Max Operating Temperature: 125°C; Packaging: Tape and Reel; Length: 10mm; Width: 9mm; Height: 5.4mm; DC Resistance Max: 4.4Ω; Inductance: 2200µH; Rated Current: 0.18A
footprint WE-PD2_1054
simulation model 1054_744776322_2.2m
pins: 1, 2

## 7447732010
designator L?, comment 1µH, 3A
WE-PD2 SMT Power Inductor, size 3521, 1µH, 3A, 0.039Ω; Manufacturer Part Number: 7447732010; Manufacturer: Wurth Elektronik; Case/Size Code: 3521; Saturation Current @ 10%: 3.7A; Saturation Current @ 30%: 4.3A; Self Resonant Frequency: 160MHz; Category: Power Inductors; Match Code: WE-PD2; ComponentLink1Description: Website Link; ComponentLink1URL: https://www.we-online.com/redexpert/article/7447732010?ad; ComponentLink2Description: Datasheet Link; ComponentLink2URL: https://www.we-online.com/redexpert/spec/7447732010?ad; Mount: Surface Mount; Min Operating Temperature: -40°C; Max Operating Temperature: 125°C; Packaging: Tape and Reel; Length: 3.5mm; Width: 3mm; Height: 2.1mm; DC Resistance Max: 0.039Ω; Inductance: 1µH; Rated Current: 3A
footprint WE-PD2_3521
simulation model 3521_7447732010_1u
pins: 1, 2

## 7447732015
designator L?, comment 1.5µH, 2.5A
WE-PD2 SMT Power Inductor, size 3521, 1.5µH, 2.5A, 0.054Ω; Manufacturer Part Number: 7447732015; Manufacturer: Wurth Elektronik; Case/Size Code: 3521; Saturation Current @ 10%: 3.05A; Saturation Current @ 30%: 3.6A; Self Resonant Frequency: 130MHz; Category: Power Inductors; Match Code: WE-PD2; ComponentLink1Description: Website Link; ComponentLink1URL: https://www.we-online.com/redexpert/article/7447732015?ad; ComponentLink2Description: Datasheet Link; ComponentLink2URL: https://www.we-online.com/redexpert/spec/7447732015?ad; Mount: Surface Mount; Min Operating Temperature: -40°C; Max Operating Temperature: 125°C; Packaging: Tape and Reel; Length: 3.5mm; Width: 3mm; Height: 2.1mm; DC Resistance Max: 0.054Ω; Inductance: 1.5µH; Rated Current: 2.5A
footprint WE-PD2_3521
simulation model 3521_7447732015_1.5u
pins: 1, 2

## 7447732022
designator L?, comment 2.2µH, 2.2A
WE-PD2 SMT Power Inductor, size 3521, 2.2µH, 2.2A, 0.07Ω; Manufacturer Part Number: 7447732022; Manufacturer: Wurth Elektronik; Case/Size Code: 3521; Saturation Current @ 10%: 2.54A; Saturation Current @ 30%: 3A; Self Resonant Frequency: 100MHz; Category: Power Inductors; Match Code: WE-PD2; ComponentLink1Description: Website Link; ComponentLink1URL: https://www.we-online.com/redexpert/article/7447732022?ad; ComponentLink2Description: Datasheet Link; ComponentLink2URL: https://www.we-online.com/redexpert/spec/7447732022?ad; Mount: Surface Mount; Min Operating Temperature: -40°C; Max Operating Temperature: 125°C; Packaging: Tape and Reel; Length: 3.5mm; Width: 3mm; Height: 2.1mm; DC Resistance Max: 0.07Ω; Inductance: 2.2µH; Rated Current: 2.2A
footprint WE-PD2_3521
simulation model 3521_7447732022_2.2u
pins: 1, 2

## 7447732033
designator L?, comment 3.3µH, 1.9A
WE-PD2 SMT Power Inductor, size 3521, 3.3µH, 1.9A, 0.091Ω; Manufacturer Part Number: 7447732033; Manufacturer: Wurth Elektronik; Case/Size Code: 3521; Saturation Current @ 10%: 2.09A; Saturation Current @ 30%: 2.45A; Self Resonant Frequency: 80MHz; Category: Power Inductors; Match Code: WE-PD2; ComponentLink1Description: Website Link; ComponentLink1URL: https://www.we-online.com/redexpert/article/7447732033?ad; ComponentLink2Description: Datasheet Link; ComponentLink2URL: https://www.we-online.com/redexpert/spec/7447732033?ad; Mount: Surface Mount; Min Operating Temperature: -40°C; Max Operating Temperature: 125°C; Packaging: Tape and Reel; Length: 3.5mm; Width: 3mm; Height: 2.1mm; DC Resistance Max: 0.091Ω; Inductance: 3.3µH; Rated Current: 1.9A
footprint WE-PD2_3521
simulation model 3521_7447732033_3.3u
pins: 1, 2

## 7447732047
designator L?, comment 4.7µH, 1.6A
WE-PD2 SMT Power Inductor, size 3521, 4.7µH, 1.6A, 0.125Ω; Manufacturer Part Number: 7447732047; Manufacturer: Wurth Elektronik; Case/Size Code: 3521; Saturation Current @ 10%: 1.77A; Saturation Current @ 30%: 2.1A; Self Resonant Frequency: 70MHz; Category: Power Inductors; Match Code: WE-PD2; ComponentLink1Description: Website Link; ComponentLink1URL: https://www.we-online.com/redexpert/article/7447732047?ad; ComponentLink2Description: Datasheet Link; ComponentLink2URL: https://www.we-online.com/redexpert/spec/7447732047?ad; Mount: Surface Mount; Min Operating Temperature: -40°C; Max Operating Temperature: 125°C; Packaging: Tape and Reel; Length: 3.5mm; Width: 3mm; Height: 2.1mm; DC Resistance Max: 0.125Ω; Inductance: 4.7µH; Rated Current: 1.6A
footprint WE-PD2_3521
simulation model 3521_7447732047_4.7u
pins: 1, 2

## 7447732068
designator L?, comment 6.8µH, 1.4A
WE-PD2 SMT Power Inductor, size 3521, 6.8µH, 1.4A, 0.17Ω; Manufacturer Part Number: 7447732068; Manufacturer: Wurth Elektronik; Case/Size Code: 3521; Saturation Current @ 10%: 1.48A; Saturation Current @ 30%: 1.78A; Self Resonant Frequency: 55MHz; Category: Power Inductors; Match Code: WE-PD2; ComponentLink1Description: Website Link; ComponentLink1URL: https://www.we-online.com/redexpert/article/7447732068?ad; ComponentLink2Description: Datasheet Link; ComponentLink2URL: https://www.we-online.com/redexpert/spec/7447732068?ad; Mount: Surface Mount; Min Operating Temperature: -40°C; Max Operating Temperature: 125°C; Packaging: Tape and Reel; Length: 3.5mm; Width: 3mm; Height: 2.1mm; DC Resistance Max: 0.17Ω; Inductance: 6.8µH; Rated Current: 1.4A
footprint WE-PD2_3521
simulation model 3521_7447732068_6.8u
pins: 1, 2

## 7447732110
designator L?, comment 10µH, 1.15A
WE-PD2 SMT Power Inductor, size 3521, 10µH, 1.15A, 0.237Ω; Manufacturer Part Number: 7447732110; Manufacturer: Wurth Elektronik; Case/Size Code: 3521; Saturation Current @ 10%: 1.23A; Saturation Current @ 30%: 1.45A; Self Resonant Frequency: 45MHz; Category: Power Inductors; Match Code: WE-PD2; ComponentLink1Description: Website Link; ComponentLink1URL: https://www.we-online.com/redexpert/article/7447732110?ad; ComponentLink2Description: Datasheet Link; ComponentLink2URL: https://www.we-online.com/redexpert/spec/7447732110?ad; Mount: Surface Mount; Min Operating Temperature: -40°C; Max Operating Temperature: 125°C; Packaging: Tape and Reel; Length: 3.5mm; Width: 3mm; Height: 2.1mm; DC Resistance Max: 0.237Ω; Inductance: 10µH; Rated Current: 1.15A
footprint WE-PD2_3521
simulation model 3521_7447732110_10u
pins: 1, 2

## 7447732115
designator L?, comment 15µH, 0.95A
WE-PD2 SMT Power Inductor, size 3521, 15µH, 0.95A, 0.347Ω; Manufacturer Part Number: 7447732115; Manufacturer: Wurth Elektronik; Case/Size Code: 3521; Saturation Current @ 10%: 1.01A; Saturation Current @ 30%: 1.18A; Self Resonant Frequency: 36MHz; Category: Power Inductors; Match Code: WE-PD2; ComponentLink1Description: Website Link; ComponentLink1URL: https://www.we-online.com/redexpert/article/7447732115?ad; ComponentLink2Description: Datasheet Link; ComponentLink2URL: https://www.we-online.com/redexpert/spec/7447732115?ad; Mount: Surface Mount; Min Operating Temperature: -40°C; Max Operating Temperature: 125°C; Packaging: Tape and Reel; Length: 3.5mm; Width: 3mm; Height: 2.1mm; DC Resistance Max: 0.347Ω; Inductance: 15µH; Rated Current: 0.95A
footprint WE-PD2_3521
simulation model 3521_7447732115_15u
pins: 1, 2

## 7447732122
designator L?, comment 22µH, 0.7A
WE-PD2 SMT Power Inductor, size 3521, 22µH, 0.7A, 0.561Ω; Manufacturer Part Number: 7447732122; Manufacturer: Wurth Elektronik; Case/Size Code: 3521; Saturation Current @ 10%: 0.84A; Saturation Current @ 30%: 0.97A; Self Resonant Frequency: 28MHz; Category: Power Inductors; Match Code: WE-PD2; ComponentLink1Description: Website Link; ComponentLink1URL: https://www.we-online.com/redexpert/article/7447732122?ad; ComponentLink2Description: Datasheet Link; ComponentLink2URL: https://www.we-online.com/redexpert/spec/7447732122?ad; Mount: Surface Mount; Min Operating Temperature: -40°C; Max Operating Temperature: 125°C; Packaging: Tape and Reel; Length: 3.5mm; Width: 3mm; Height: 2.1mm; DC Resistance Max: 0.561Ω; Inductance: 22µH; Rated Current: 0.7A
footprint WE-PD2_3521
simulation model 3521_7447732122_22u
pins: 1, 2

## 7447732133
designator L?, comment 33µH, 0.6A
WE-PD2 SMT Power Inductor, size 3521, 33µH, 0.6A, 0.778Ω; Manufacturer Part Number: 7447732133; Manufacturer: Wurth Elektronik; Case/Size Code: 3521; Saturation Current @ 10%: 0.7A; Saturation Current @ 30%: 0.83A; Self Resonant Frequency: 24MHz; Category: Power Inductors; Match Code: WE-PD2; ComponentLink1Description: Website Link; ComponentLink1URL: https://www.we-online.com/redexpert/article/7447732133?ad; ComponentLink2Description: Datasheet Link; ComponentLink2URL: https://www.we-online.com/redexpert/spec/7447732133?ad; Mount: Surface Mount; Min Operating Temperature: -40°C; Max Operating Temperature: 125°C; Packaging: Tape and Reel; Length: 3.5mm; Width: 3mm; Height: 2.1mm; DC Resistance Max: 0.778Ω; Inductance: 33µH; Rated Current: 0.6A
footprint WE-PD2_3521
simulation model 3521_7447732133_33u
pins: 1, 2

## 7447732147
designator L?, comment 47µH, 0.5A
WE-PD2 SMT Power Inductor, size 3521, 47µH, 0.5A, 1.11Ω; Manufacturer Part Number: 7447732147; Manufacturer: Wurth Elektronik; Case/Size Code: 3521; Saturation Current @ 10%: 0.59A; Saturation Current @ 30%: 0.69A; Self Resonant Frequency: 20MHz; Category: Power Inductors; Match Code: WE-PD2; ComponentLink1Description: Website Link; ComponentLink1URL: https://www.we-online.com/redexpert/article/7447732147?ad; ComponentLink2Description: Datasheet Link; ComponentLink2URL: https://www.we-online.com/redexpert/spec/7447732147?ad; Mount: Surface Mount; Min Operating Temperature: -40°C; Max Operating Temperature: 125°C; Packaging: Tape and Reel; Length: 3.5mm; Width: 3mm; Height: 2.1mm; DC Resistance Max: 1.11Ω; Inductance: 47µH; Rated Current: 0.5A
footprint WE-PD2_3521
simulation model 3521_7447732147_47u
pins: 1, 2

## 7447732168
designator L?, comment 68µH, 0.4A
WE-PD2 SMT Power Inductor, size 3521, 68µH, 0.4A, 1.57Ω; Manufacturer Part Number: 7447732168; Manufacturer: Wurth Elektronik; Case/Size Code: 3521; Saturation Current @ 10%: 0.49A; Saturation Current @ 30%: 0.57A; Self Resonant Frequency: 16MHz; Category: Power Inductors; Match Code: WE-PD2; ComponentLink1Description: Website Link; ComponentLink1URL: https://www.we-online.com/redexpert/article/7447732168?ad; ComponentLink2Description: Datasheet Link; ComponentLink2URL: https://www.we-online.com/redexpert/spec/7447732168?ad; Mount: Surface Mount; Min Operating Temperature: -40°C; Max Operating Temperature: 125°C; Packaging: Tape and Reel; Length: 3.5mm; Width: 3mm; Height: 2.1mm; DC Resistance Max: 1.57Ω; Inductance: 68µH; Rated Current: 0.4A
footprint WE-PD2_3521
simulation model 3521_7447732168_68u
pins: 1, 2

## 7447732210
designator L?, comment 100µH, 0.3A
WE-PD2 SMT Power Inductor, size 3521, 100µH, 0.3A, 2.42Ω; Manufacturer Part Number: 7447732210; Manufacturer: Wurth Elektronik; Case/Size Code: 3521; Saturation Current @ 10%: 0.41A; Saturation Current @ 30%: 0.47A; Self Resonant Frequency: 12MHz; Category: Power Inductors; Match Code: WE-PD2; ComponentLink1Description: Website Link; ComponentLink1URL: https://www.we-online.com/redexpert/article/7447732210?ad; ComponentLink2Description: Datasheet Link; ComponentLink2URL: https://www.we-online.com/redexpert/spec/7447732210?ad; Mount: Surface Mount; Min Operating Temperature: -40°C; Max Operating Temperature: 125°C; Packaging: Tape and Reel; Length: 3.5mm; Width: 3mm; Height: 2.1mm; DC Resistance Max: 2.42Ω; Inductance: 100µH; Rated Current: 0.3A
footprint WE-PD2_3521
simulation model 3521_7447732210_100u
pins: 1, 2